# EAGLE library part HIH-6130 (library arducorder-mini)
Honeywell HIH-6130 Digital Humidity/Temperature Sensor
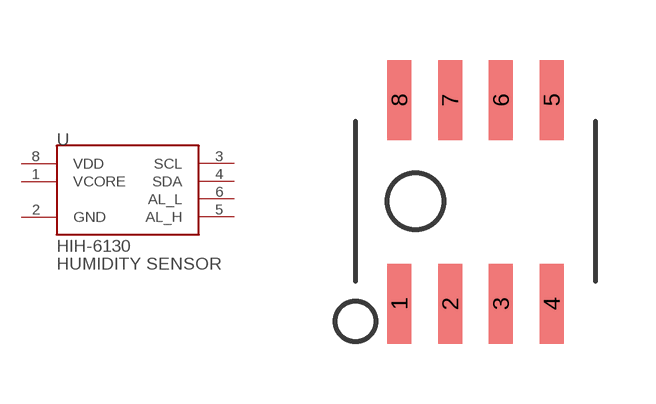
[diagram p20: symbol with the pads of HIH-6130; footprint HIH-6130]

Designator prefix -

## HIH-6130  [HIH-6130]
1  VCORE
2  GND
3  SCL
4  SDA
5  AL_H
6  AL_L
8  VDD

## Footprint HIH-6130 (pad centres in mm)
smd 0.6 x 2: 1 -1.905,-2.56; 2 -0.635,-2.56; 3 0.635,-2.56; 4 1.905,-2.56; 5 1.905,2.54; 6 0.635,2.54; 7 -0.635,2.54; 8 -1.905,2.54